# EAGLE library part AM/FM (library SWITCH_DIL)
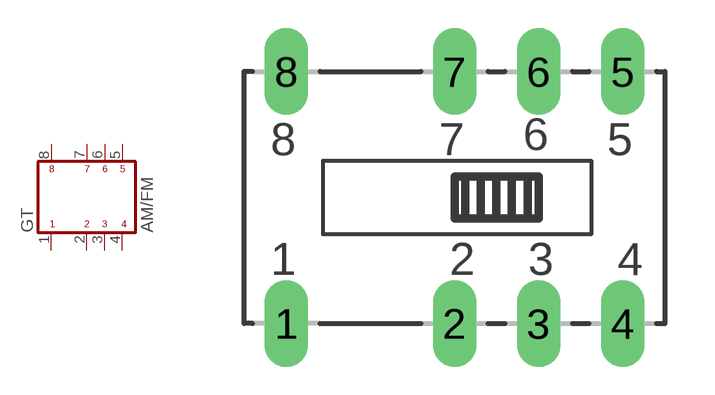
[diagram p58: symbol with the pads of AM/FM; footprint AM/FM]

Designator prefix GT

## AM/FM  [AM/FM]
1  1  pas
2  2  pas
3  3  pas
4  4  pas
5  5  pas
6  6  pas
7  7  pas
8  8  pas

## Footprint AM/FM (pad centres in mm)
drill 0.813 long: 1 -5.08,-3.81; 2 0,-3.81; 3 2.54,-3.81; 4 5.08,-3.81; 5 5.08,3.81; 6 2.54,3.81; 7 0,3.81; 8 -5.08,3.81